# Altium footprint library Crazy_PCB.PcbLib: 155 footprints (part 9 of 10)
Each footprint in its own frame and in the unit in brackets; x right, y up, seen from the top. Pads: shape width x height; smd on the part's side, far side on the other; paste and mask are expansions set on the pad; w line width, h text height; cw(c..) or ccw(c..) is an arc to the next point about the centre after c.
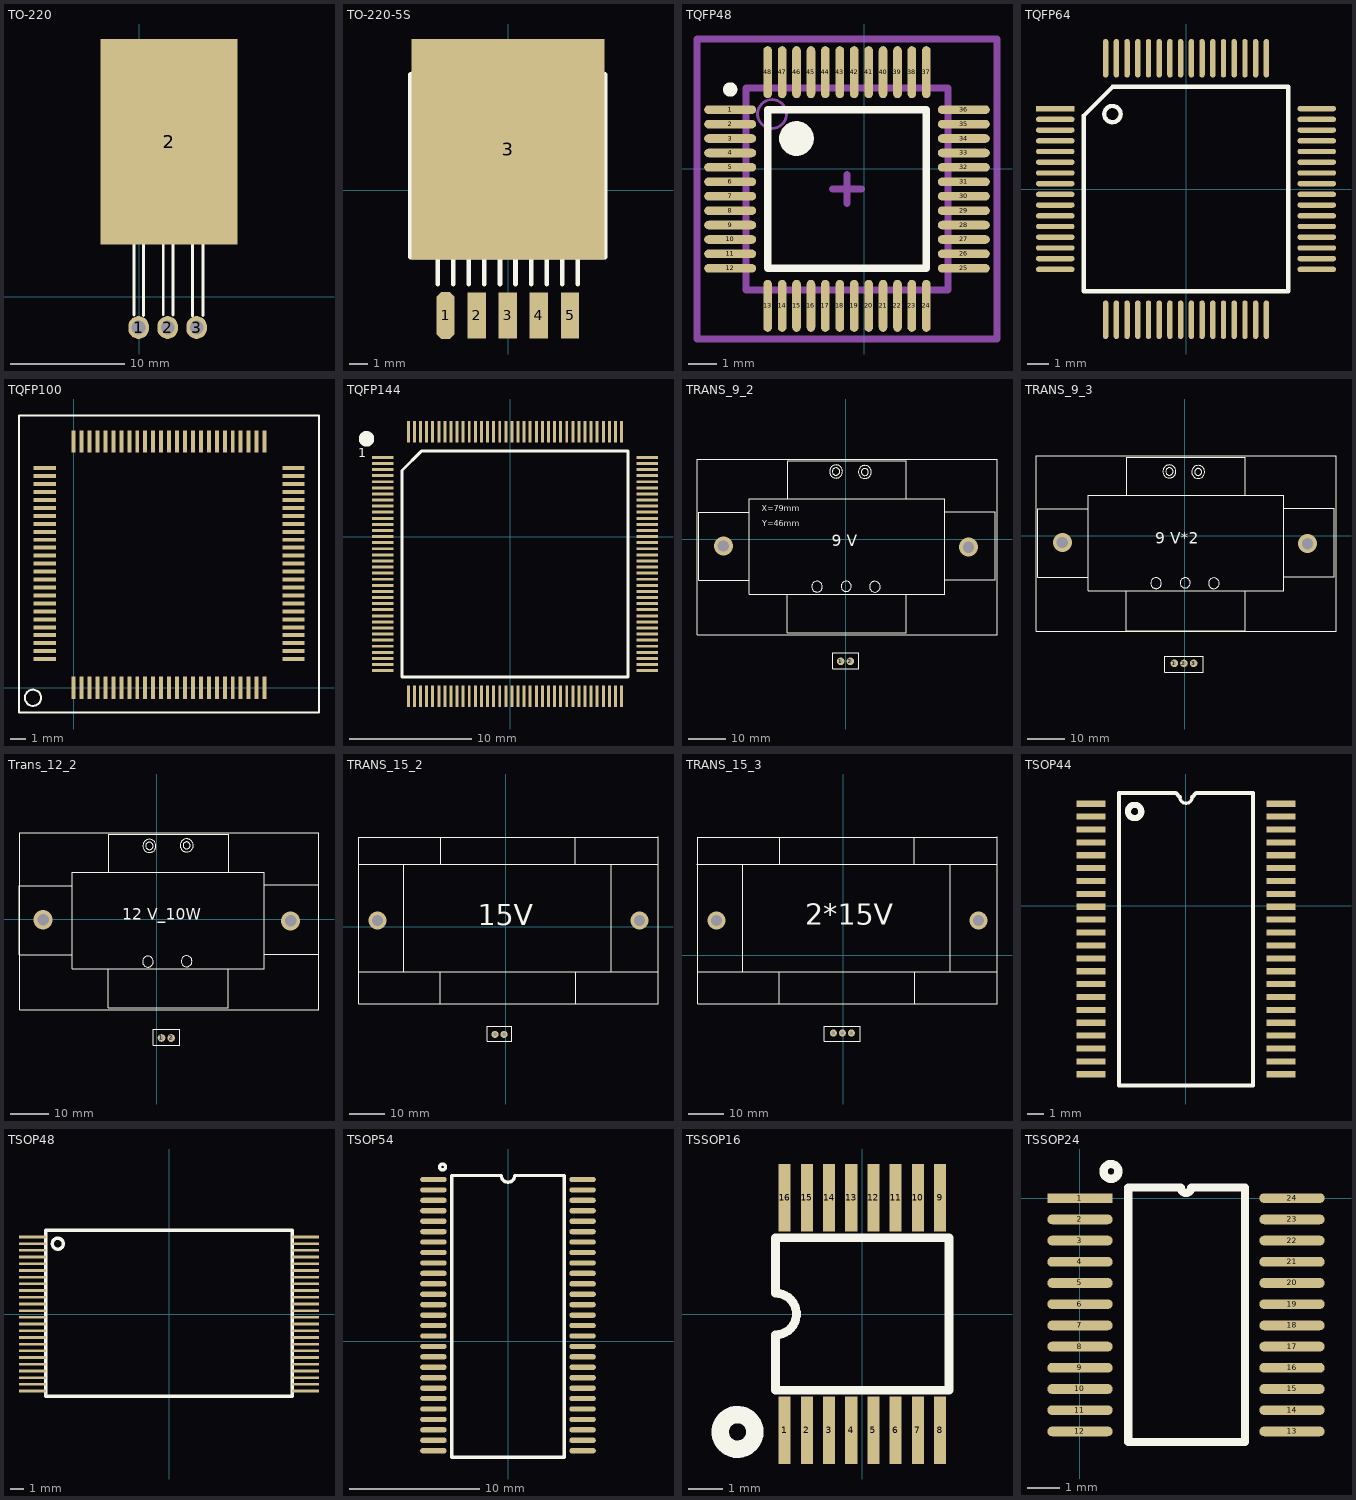
[diagram p8: the footprints below, top view; thin cyan lines are the x and y axes]

## TO-220 [mm]
pads (4):
  oval 1.8x2 hole 1.2: 1(-0.06,-2.69) 2(2.48,-2.69) 3(5.02,-2.69)
  rect 12x18 smd: 2(2.6,13.56)
Top Overlay:
  lines w0.254: -2.54,16.51 -2.54,5.08 7.62,5.08 7.62,16.51 ; -2.54,19.05 -2.54,20.32 7.62,20.32 7.62,19.05 ; -0.45,-1.58 -0.45,5.08 ; 0.38,-1.64 0.38,5.02 ; 2.1,-1.56 2.1,5.06 ; 2.95,-1.6 2.95,5.06 ; 4.67,-1.66 4.67,5.02 ; 5.56,-1.63 5.56,5.03

## TO-220-5S [mm]
pads (6):
  oct 0.995x2.56 smd: 1(-3.4,-6.8)
  rect 0.995x2.5 smd: 2(-1.707,-6.8) 3(-0.013,-6.8) 4(1.68,-6.8) 5(3.373,-6.8)
  rect 10.5x12 smd: 3(0,2.24)
Top Overlay:
  lines w0.254: -3.823,-5.1 -3.823,-3.625 ; -2.977,-5.1 -2.977,-3.625 ; -2.13,-5.1 -2.13,-3.625 ; -1.283,-5.1 -1.283,-3.625 ; -0.437,-5.1 -0.437,-3.625 ; 0.41,-5.1 0.41,-3.625 ; 1.257,-5.1 1.257,-3.625 ; 2.103,-5.1 2.103,-3.625 ; 2.95,-5.1 2.95,-3.625 ; 3.797,-5.1 3.797,-3.625 ; -5.305,-3.625 5.278,-3.625 ; -5.305,-3.625 -5.305,5.053 ; -5.305,-3.625 -4.882,-3.202 ; -5.305,5.053 5.278,5.053 ; -5.305,5.053 -5.305,6.323 -3.823,6.747 3.797,6.747 5.278,6.323 5.278,5.053 ; -5.305,5.053 -4.882,4.63 ; -4.882,-3.202 -4.882,4.63 ; -4.882,-3.202 4.855,-3.202 ; -4.882,4.63 4.855,4.63 ; 4.855,-3.202 5.278,-3.625 ; 4.855,-3.202 4.855,4.63 ; 4.855,4.63 5.278,5.053 ; 5.278,-3.625 5.278,5.053
  text "1" at -3.682,-2.97 h1.27
  text "5" at 2.876,-2.942 h1.27
3D body: height 2, standoff 0, extent -5.432,-8.182 5.405,8.342

## TQFP48 [mm]
pads (48):
  oval 1.8x0.3 smd: 1(-4.656,2.045) 2(-4.656,1.545) 3(-4.656,1.045) 4(-4.656,0.545) 5(-4.656,0.045) 6(-4.656,-0.455) 7(-4.656,-0.955) 8(-4.656,-1.455) 9(-4.656,-1.955) 10(-4.656,-2.455) 11(-4.656,-2.955) 12(-4.656,-3.455) 25(3.444,-3.455) 26(3.444,-2.955) 27(3.444,-2.455) 28(3.444,-1.955) 29(3.444,-1.455) 30(3.444,-0.955) 31(3.444,-0.455) 32(3.444,0.045) 33(3.444,0.545) 34(3.444,1.045) 35(3.444,1.545) 36(3.444,2.045)
  oval 0.3x1.8 smd: 13(-3.356,-4.755) 14(-2.856,-4.755) 15(-2.356,-4.755) 16(-1.856,-4.755) 17(-1.356,-4.755) 18(-0.856,-4.755) 19(-0.356,-4.755) 20(0.144,-4.755) 21(0.644,-4.755) 22(1.144,-4.755) 23(1.644,-4.755) 24(2.144,-4.755) 37(2.144,3.345) 38(1.644,3.345) 39(1.144,3.345) 40(0.644,3.345) 41(0.144,3.345) 42(-0.356,3.345) 43(-0.856,3.345) 44(-1.356,3.345) 45(-1.856,3.345) 46(-2.356,3.345) 47(-2.856,3.345) 48(-3.356,3.345)
Top Overlay:
  circle w0.6: c-2.356,1.045 r0.3
  circle w0.25: c-4.656,2.745 r0.125
  lines w0.254: -3.356,-3.455 2.144,-3.455 2.144,2.045 -3.356,2.045 -3.356,-3.455
Mechanical 13:
  circle w0.1: c-3.206,1.895 r0.5
  lines w0.254: -4.106,-4.205 2.894,-4.205 2.894,2.795 -4.106,2.795 -4.106,-4.205
Mechanical 15:
  lines w0.254: -1.106,-0.705 -0.106,-0.705 ; -0.606,-1.205 -0.606,-0.205 ; -5.806,-5.905 4.594,-5.905 4.594,4.495 -5.806,4.495 -5.806,-5.905
3D body: height 1.6, standoff 0, extent -4.106,-4.205 2.894,2.795

## TQFP64 [mm]
pads (64):
  rect 1.8x0.25 smd: 1(-6.1,3.75)
  oval 1.8x0.25 smd: 2(-6.1,3.25) 3(-6.1,2.75) 4(-6.1,2.25) 5(-6.1,1.75) 6(-6.1,1.25) 7(-6.1,0.75) 8(-6.1,0.25) 9(-6.1,-0.25) 10(-6.1,-0.75) 11(-6.1,-1.25) 12(-6.1,-1.75) 13(-6.1,-2.25) 14(-6.1,-2.75) 15(-6.1,-3.25) 16(-6.1,-3.75) 33(6.1,-3.75) 34(6.1,-3.25) 35(6.1,-2.75) 36(6.1,-2.25) 37(6.1,-1.75) 38(6.1,-1.25) 39(6.1,-0.75) 40(6.1,-0.25) 41(6.1,0.25) 42(6.1,0.75) 43(6.1,1.25) 44(6.1,1.75) 45(6.1,2.25) 46(6.1,2.75) 47(6.1,3.25) 48(6.1,3.75)
  oval 0.25x1.8 smd: 17(-3.75,-6.1) 18(-3.25,-6.1) 19(-2.75,-6.1) 20(-2.25,-6.1) 21(-1.75,-6.1) 22(-1.25,-6.1) 23(-0.75,-6.1) 24(-0.25,-6.1) 25(0.25,-6.1) 26(0.75,-6.1) 27(1.25,-6.1) 28(1.75,-6.1) 29(2.25,-6.1) 30(2.75,-6.1) 31(3.25,-6.1) 32(3.75,-6.1) 49(3.75,6.1) 50(3.25,6.1) 51(2.75,6.1) 52(2.25,6.1) 53(1.75,6.1) 54(1.25,6.1) 55(0.75,6.1) 56(0.25,6.1) 57(-0.25,6.1) 58(-0.75,6.1) 59(-1.25,6.1) 60(-1.75,6.1) 61(-2.25,6.1) 62(-2.75,6.1) 63(-3.25,6.1) 64(-3.75,6.1)
Top Overlay:
  circle w0.203: c-3.433,3.496 r0.381
  lines w0.203: -4.765,-4.765 -4.765,3.43 -3.43,4.765 4.765,4.765 4.765,-4.765 -4.765,-4.765
3D body: height 1.5, standoff 0, extent -4.766,-4.766 4.765,4.765

## TQFP100 [mm]
pads (100):
  rect 0.25x1.4 smd: 1(0,0) 2(0.5,0) 3(1,0) 4(1.5,0) 5(2,0) 6(2.5,0) 7(3,0) 8(3.5,0) 9(4,0) 10(4.5,0) 11(5,0) 12(5.5,0) 13(6,0) 14(6.5,0) 15(7,0) 16(7.5,0) 17(8,0) 18(8.5,0) 19(9,0) 20(9.5,0) 21(10,0) 22(10.5,0) 23(11,0) 24(11.5,0) 25(12,0) 51(12,15.469) 52(11.5,15.469) 53(11,15.469) 54(10.5,15.469) 55(10,15.469) 56(9.5,15.469) 57(9,15.469) 58(8.5,15.469) 59(8,15.469) 60(7.5,15.469) 61(7,15.469) 62(6.5,15.469) 63(6,15.469) 64(5.5,15.469) 65(5,15.469) 66(4.5,15.469) 67(4,15.469) 68(3.5,15.469) 69(3,15.469) 70(2.5,15.469) 71(2,15.469) 72(1.5,15.469) 73(1,15.469) 74(0.5,15.469) 75(0,15.469)
  rect 1.4x0.25 smd: 26(13.818,1.799) 27(13.818,2.299) 28(13.818,2.799) 29(13.818,3.299) 30(13.818,3.799) 31(13.818,4.299) 32(13.818,4.799) 33(13.818,5.299) 34(13.818,5.799) 35(13.818,6.299) 36(13.818,6.799) 37(13.818,7.299) 38(13.818,7.799) 39(13.818,8.299) 40(13.818,8.799) 41(13.818,9.299) 42(13.818,9.799) 43(13.818,10.299) 44(13.818,10.799) 45(13.818,11.299) 46(13.818,11.799) 47(13.818,12.299) 48(13.818,12.799) 49(13.818,13.299) 50(13.818,13.799) 76(-1.803,13.799) 77(-1.803,13.299) 78(-1.803,12.799) 79(-1.803,12.299) 80(-1.803,11.799) 81(-1.803,11.299) 82(-1.803,10.799) 83(-1.803,10.299) 84(-1.803,9.799) 85(-1.803,9.299) 86(-1.803,8.799) 87(-1.803,8.299) 88(-1.803,7.799) 89(-1.803,7.299) 90(-1.803,6.799) 91(-1.803,6.299) 92(-1.803,5.799) 93(-1.803,5.299) 94(-1.803,4.799) 95(-1.803,4.299) 96(-1.803,3.799) 97(-1.803,3.299) 98(-1.803,2.799) 99(-1.803,2.299) 100(-1.803,1.799)
Top Overlay:
  circle w0.127: c-2.548,-0.63 r0.508
  lines w0.127: -3.43,-1.57 -3.43,17.12 15.42,17.12 15.42,-1.57 -3.43,-1.57
3D body: height 1.5, standoff 0, extent -2.605,-0.802 14.619,16.27

## TQFP144 [mil]
pads (144):
  rect 70x9.5 smd: 1(-412.2,256.3) 2(-412.2,236.61) 3(-412.2,216.93) 4(-412.2,197.24) 5(-412.2,177.56) 6(-412.2,157.87) 7(-412.2,138.19) 8(-412.2,118.5) 9(-412.2,98.82) 10(-412.2,79.13) 11(-412.2,59.45) 12(-412.2,39.76) 13(-412.2,20.08) 14(-412.2,0.39) 15(-412.2,-19.29) 16(-412.2,-38.98) 17(-412.2,-58.66) 18(-412.2,-78.35) 19(-412.2,-98.03) 20(-412.2,-117.72) 21(-412.2,-137.4) 22(-412.2,-157.09) 23(-412.2,-176.77) 24(-412.2,-196.46) 25(-412.2,-216.14) 26(-412.2,-235.83) 27(-412.2,-255.51) 28(-412.2,-275.2) 29(-412.2,-294.88) 30(-412.2,-314.57) 31(-412.2,-334.25) 32(-412.2,-353.94) 33(-412.2,-373.62) 34(-412.2,-393.31) 35(-412.2,-412.99) 36(-412.2,-432.68) 73(442.12,-432.68) 74(442.12,-412.99) 75(442.12,-393.31) 76(442.12,-373.62) 77(442.12,-353.94) 78(442.12,-334.25) 79(442.12,-314.57) 80(442.12,-294.88) 81(442.12,-275.2) 82(442.12,-255.51) 83(442.12,-235.83) 84(442.12,-216.14) 85(442.12,-196.46) 86(442.12,-176.77) 87(442.12,-157.09) 88(442.12,-137.4) 89(442.12,-117.72) 90(442.12,-98.03) 91(442.12,-78.35) 92(442.12,-58.66) 93(442.12,-38.98) 94(442.12,-19.29) 95(442.12,0.39) 96(442.12,20.08) 97(442.12,39.76) 98(442.12,59.45) 99(442.12,79.13) 100(442.12,98.82) 101(442.12,118.5) 102(442.12,138.19) 103(442.12,157.87) 104(442.12,177.56) 105(442.12,197.24) 106(442.12,216.93) 107(442.12,236.61) 108(442.12,256.3)
  rect 9.5x70 smd: 37(-329.53,-515.35) 38(-309.84,-515.35) 39(-290.16,-515.35) 40(-270.47,-515.35) 41(-250.79,-515.35) 42(-231.1,-515.35) 43(-211.42,-515.35) 44(-191.73,-515.35) 45(-172.05,-515.35) 46(-152.36,-515.35) 47(-132.68,-515.35) 48(-112.99,-515.35) 49(-93.31,-515.35) 50(-73.62,-515.35) 51(-53.94,-515.35) 52(-34.25,-515.35) 53(-14.57,-515.35) 54(5.12,-515.35) 55(24.8,-515.35) 56(44.49,-515.35) 57(64.17,-515.35) 58(83.86,-515.35) 59(103.54,-515.35) 60(123.23,-515.35) 61(142.91,-515.35) 62(162.6,-515.35) 63(182.28,-515.35) 64(201.97,-515.35) 65(221.65,-515.35) 66(241.34,-515.35) 67(261.02,-515.35) 68(280.71,-515.35) 69(300.39,-515.35) 70(320.08,-515.35) 71(339.76,-515.35) 72(359.45,-515.35) 109(359.45,338.98) 110(339.76,338.98) 111(320.08,338.98) 112(300.39,338.98) 113(280.71,338.98) 114(261.02,338.98) 115(241.34,338.98) 116(221.65,338.98) 117(201.97,338.98) 118(182.28,338.98) 119(162.6,338.98) 120(142.91,338.98) 121(123.23,338.98) 122(103.54,338.98) 123(83.86,338.98) 124(64.17,338.98) 125(44.49,338.98) 126(24.8,338.98) 127(5.12,338.98) 128(-14.57,338.98) 129(-34.25,338.98) 130(-53.94,338.98) 131(-73.62,338.98) 132(-93.31,338.98) 133(-112.99,338.98) 134(-132.68,338.98) 135(-152.36,338.98) 136(-172.05,338.98) 137(-191.73,338.98) 138(-211.42,338.98) 139(-231.1,338.98) 140(-250.79,338.98) 141(-270.47,338.98) 142(-290.16,338.98) 143(-309.84,338.98) 144(-329.53,338.98)
Top Overlay:
  circle w25: c-464.7,316.3 r12.5
  lines w9.84: -349.8,-452.95 -349.8,214.17 -287.4,276.58 379.72,276.58 379.72,-452.95 -349.8,-452.95
  text "1" at -492.2,256.3 h30
3D body: height 78.74, standoff 0, extent -349.82,-452.97 379.74,276.6

## TRANS_9_2 [mm] "2 x 9 V"
pads (2):
  round 2 hole 1: 1(-1.35,-32.29) 2(1.19,-32.29)
via 32.41,-2.12 diameter 5 hole 3
via -32.35,-1.82 diameter 5 hole 3
Top Overlay:
  circle w0.254: c5.01,17.7 r0.93
  circle w0.254: c-2.581,17.83 r0.971
  circle w0.254: c5.03,17.71 r1.717
  circle w0.254: c-2.58,17.84 r1.717
  circle w0.254: c7.68,-12.59 r1.415
  circle w0.254: c0.1,-12.5 r1.339
  circle w0.254: c-7.582,-12.57 r1.422
  lines w0.25: -25.503,-10.94 -38.838,-10.94 -38.838,-1.923 -38.838,7.094 -25.503,7.094 ; -25.503,-2.05 -25.503,-14.623 26.186,-14.623 26.186,-1.796 ; -25.503,-1.923 -25.503,10.65 26.186,10.65 26.186,-1.669 ; -15.47,-14.75 -15.47,-24.783 15.899,-24.783 15.899,-14.75 ; -15.343,10.65 -15.343,20.683 16.026,20.683 16.026,10.65 ; 26.186,-10.813 39.521,-10.813 39.521,-1.796 39.521,7.221 26.186,7.221 ; -39.3,-25.291 39.93,-25.291 39.93,21.07 -39.3,21.07 -39.3,-25.291 ; -3.48,-34.25 3.38,-34.25 3.38,-30.03 -3.48,-30.03 -3.48,-34.25
  text "Y=46mm" at -22.08,3.41 h1.5
  text "X=79mm" at -22.18,7.39 h1.5
  text "9 V" at -3.68,-1.91 h3

## TRANS_9_3 [mm] "2 x 9 V"
pads (3):
  round 2 hole 1: 1(-2.76,-33.73) 2(-0.22,-33.73) 3(2.32,-33.73)
via -32.35,-1.82 diameter 5 hole 3
via 32.41,-2.12 diameter 5 hole 3
Top Overlay:
  circle w0.254: c-7.582,-12.57 r1.422
  circle w0.254: c0.1,-12.5 r1.339
  circle w0.254: c7.68,-12.59 r1.415
  circle w0.254: c-4.07,16.94 r1.717
  circle w0.254: c3.54,16.81 r1.717
  circle w0.254: c-4.071,16.93 r0.971
  circle w0.254: c3.52,16.8 r0.93
  lines w0.25: -25.503,-10.94 -38.838,-10.94 -38.838,-1.923 -38.838,7.094 -25.503,7.094 ; -25.503,-2.05 -25.503,-14.623 26.186,-14.623 26.186,-1.796 ; -25.503,-1.923 -25.503,10.65 26.186,10.65 26.186,-1.669 ; -15.47,-14.75 -15.47,-25.18 15.899,-25.18 15.899,-14.75 ; -15.343,10.65 -15.343,20.683 16.026,20.683 16.026,10.65 ; 26.186,-10.813 39.521,-10.813 39.521,-1.796 39.521,7.221 26.186,7.221 ; -39.3,-25.291 -39.3,21.07 39.93,21.07 39.93,-25.291 -39.3,-25.291 ; -5.3,-36.07 -5.3,-31.82 4.86,-31.82 4.86,-36.07 -5.3,-36.07
  text "9 V*2" at -7.78,-2.2 h3

## Trans_12_2 [mm]
pads (2):
  round 2 hole 1: 1(1.29,-31.01) 2(3.83,-31.01)
via 35.09,-0.39 diameter 5 hole 3
via -29.67,-0.09 diameter 5 hole 3
Top Overlay:
  circle w0.254: c7.866,19.355 r0.93
  circle w0.254: c-1.875,19.225 r0.971
  circle w0.254: c7.886,19.365 r1.717
  circle w0.254: c-1.874,19.235 r1.717
  circle w0.254: c7.871,-10.955 r1.415
  circle w0.254: c-2.256,-11.035 r1.422
  lines w0.25: -22.104,8.749 -35.982,8.749 -35.982,-0.268 -35.982,-9.285 -22.084,-9.285 ; -12.614,-13.095 -12.614,-23.128 18.755,-23.128 18.755,-13.095 ; -12.487,12.305 -12.487,22.338 18.882,22.338 18.882,12.305 ; 28.056,9.065 42.377,9.065 42.377,-0.141 42.377,-9.158 28.116,-9.158 ; -35.834,-23.636 42.496,-23.636 42.496,22.725 -35.834,22.725 -35.834,-23.636 ; -22.094,-12.968 -22.094,0.285 -22.094,12.305 28.176,12.305 28.176,0.852 28.176,-12.968 -22.094,-12.968 ; -0.84,-32.97 6.02,-32.97 6.02,-28.75 -0.84,-28.75 -0.84,-32.97
  text "12 V_10W" at -9.024,-0.045 h3

## TRANS_15_2 [mm]
pads (2):
  round 2 hole 1: 1(-3.08,-30.33) 2(-0.54,-30.33)
via 37.66,1.76 diameter 5 hole 3
via -36.21,1.76 diameter 5 hole 3
Top Overlay:
  lines w0.25: -41.686,17.62 42.604,17.62 ; -41.432,-12.733 42.858,-12.733 ; -28.732,-12.733 -28.732,17.62 ; -18.445,-12.977 -18.445,-21.75 19.655,-21.75 19.655,-12.733 ; -18.318,25.25 -18.318,17.62 19.528,17.62 19.528,25.25 ; 29.688,-12.733 29.688,17.62 ; 42.858,-21.75 -41.432,-21.75 -41.432,25.25 42.858,25.25 ; 42.858,-21.623 42.858,25.377 ; -5.21,-32.29 1.65,-32.29 1.65,-28.04 -5.21,-28.04 -5.21,-32.29
  text "15V" at -7.97,-1.59 h10

## TRANS_15_3 [mm]
pads (3):
  round 2 hole 1: 1(-2.84,-21.87) 2(-0.3,-21.87) 3(2.24,-21.87)
via -35.8,9.84 diameter 5 hole 3
via 38.07,9.84 diameter 5 hole 3
Top Overlay:
  lines w0.25: -41.276,25.7 43.014,25.7 ; -41.022,-4.653 43.268,-4.653 ; -28.322,-4.653 -28.322,25.7 ; -18.035,-4.897 -18.035,-13.67 20.065,-13.67 20.065,-4.653 ; -17.908,33.33 -17.908,25.7 19.938,25.7 19.938,33.33 ; 30.098,-4.653 30.098,25.7 ; 43.268,-13.67 -41.022,-13.67 -41.022,33.33 43.268,33.33 ; 43.268,-13.543 43.268,33.457 ; -5.38,-24.21 -5.38,-19.96 4.78,-19.96 4.78,-24.21 -5.38,-24.21
  text "2*15V" at -10.78,6.62 h10

## TSOP44 [mil] "贴片"
pads (44):
  rect 72x15 smd: 1(-231.5,249.21) 2(-231.5,217.72) 3(-231.5,186.22) 4(-231.5,154.72) 5(-231.5,123.23) 6(-231.5,91.73) 7(-231.5,60.24) 8(-231.5,28.74) 9(-231.5,-2.76) 10(-231.5,-34.25) 11(-231.5,-65.75) 12(-231.5,-97.24) 13(-231.5,-128.74) 14(-231.5,-160.24) 15(-231.5,-191.73) 16(-231.5,-223.23) 17(-231.5,-254.73) 18(-231.5,-286.22) 19(-231.5,-317.72) 20(-231.5,-349.21) 21(-231.5,-380.71) 22(-231.5,-412.21) 23(233.07,-412.21) 24(233.07,-380.71) 25(233.07,-349.21) 26(233.07,-317.72) 27(233.07,-286.22) 28(233.07,-254.73) 29(233.07,-223.23) 30(233.07,-191.73) 31(233.07,-160.24) 32(233.07,-128.74) 33(233.07,-97.24) 34(233.07,-65.75) 35(233.07,-34.25) 36(233.07,-2.76) 37(233.07,28.74) 38(233.07,60.24) 39(233.07,91.73) 40(233.07,123.23) 41(233.07,154.72) 42(233.07,186.22) 43(233.07,217.72) 44(233.07,249.21)
Top Overlay:
  lines w7.87: -13.96,264.96 ccw(c0.79,264.96) 15.54,264.96
  lines w10: -13.96,264.96 -24.2,275.2 -163.19,275.2 -163.19,-439.37 164.76,-439.37 164.76,275.2 25.77,275.2 15.54,264.96
  lines w15: -108.5,230.21 cw(c-124.8,230.21) -108.51,230.89
3D body: height 39.37, standoff 0, extent -168.19,-444.37 169.76,280.2

## TSOP48 [mm]
pads (48):
  rect 2x0.2 smd: 1(-10.2,5.75) 2(-10.2,5.25) 3(-10.2,4.75) 4(-10.2,4.25) 5(-10.2,3.75) 6(-10.2,3.25) 7(-10.2,2.75) 8(-10.2,2.25) 9(-10.2,1.75) 10(-10.2,1.25) 11(-10.2,0.75) 12(-10.2,0.25) 13(-10.2,-0.25) 14(-10.2,-0.75) 15(-10.2,-1.25) 16(-10.2,-1.75) 17(-10.2,-2.25) 18(-10.2,-2.75) 19(-10.2,-3.25) 20(-10.2,-3.75) 21(-10.2,-4.25) 22(-10.2,-4.75) 23(-10.2,-5.25) 24(-10.2,-5.75) 25(10.2,-5.75) 26(10.2,-5.25) 27(10.2,-4.75) 28(10.2,-4.25) 29(10.2,-3.75) 30(10.2,-3.25) 31(10.2,-2.75) 32(10.2,-2.25) 33(10.2,-1.75) 34(10.2,-1.25) 35(10.2,-0.75) 36(10.2,-0.25) 37(10.2,0.25) 38(10.2,0.75) 39(10.2,1.25) 40(10.2,1.75) 41(10.2,2.25) 42(10.2,2.75) 43(10.2,3.25) 44(10.2,3.75) 45(10.2,4.25) 46(10.2,4.75) 47(10.2,5.25) 48(10.2,5.75)
Top Overlay:
  circle w0.254: c-8.3,5.25 r0.412
  lines w0.25: -9.2,-6.15 -9.2,6.25 9.2,6.25 9.2,-6.15 -9.2,-6.15
3D body: height 1, standoff 0, extent -9.199,-6.149 9.199,6.249

## TSOP54 [mil]
height 200
pads (54):
  oval 80x16 smd: 1(-225,488.25) 2(-225,456.75) 3(-225,425.25) 4(-225,393.75) 5(-225,362.25) 6(-225,330.75) 7(-225,299.25) 8(-225,267.75) 9(-225,236.25) 10(-225,204.75) 11(-225,173.25) 12(-225,141.75) 13(-225,110.25) 14(-225,78.75) 15(-225,47.25) 16(-225,15.75) 17(-225,-15.75) 18(-225,-47.25) 19(-225,-78.75) 20(-225,-110.25) 21(-225,-141.75) 22(-225,-173.25) 23(-225,-204.75) 24(-225,-236.25) 25(-225,-267.75) 26(-225,-299.25) 27(-225,-330.75) 28(225,-330.75) 29(225,-299.25) 30(225,-267.75) 31(225,-236.25) 32(225,-204.75) 33(225,-173.25) 34(225,-141.75) 35(225,-110.25) 36(225,-78.75) 37(225,-47.25) 38(225,-15.75) 39(225,15.75) 40(225,47.25) 41(225,78.75) 42(225,110.25) 43(225,141.75) 44(225,173.25) 45(225,204.75) 46(225,236.25) 47(225,267.75) 48(225,299.25) 49(225,330.75) 50(225,362.25) 51(225,393.75) 52(225,425.25) 53(225,456.75) 54(225,488.25)
Top Overlay:
  circle w10: c-197.56,525.98 r8.98
  lines w10: -170,-350 -170,500 -20,500 ccw(c0,500) 20,500 170,500 170,-350 -170,-350
3D body: height 39.37, standoff 0, extent -170.02,-350.02 170.02,500.02

## TSSOP16 [mm]
pads (16):
  rect 0.35x1.95 smd: 1(-2.24,-3.35) 2(-1.6,-3.35) 3(-0.96,-3.35) 4(-0.32,-3.35) 5(0.32,-3.35) 6(0.96,-3.35) 7(1.6,-3.35) 8(2.24,-3.35) 9(2.24,3.35) 10(1.6,3.35) 11(0.96,3.35) 12(0.32,3.35) 13(-0.32,3.35) 14(-0.96,3.35) 15(-1.6,3.35) 16(-2.24,3.35)
Top Overlay:
  circle w0.5: c-3.6,-3.4 r0.5
  lines w0.254: -2.5,-2.2 2.5,-2.2 2.5,2.2 -2.5,2.2 -2.5,0.6 cw(c-2.5,0) -2.5,-0.6 -2.5,-2.2
3D body: height 1, standoff 0, extent -2.501,-2.201 2.501,2.201

## TSSOP24 [mm]
pads (24):
  rect 2x0.3 smd: 1(0,0)
  oval 2x0.3 smd: 2(0,-0.65) 3(0,-1.3) 4(0,-1.95) 5(0,-2.6) 6(0,-3.25) 7(0,-3.9) 8(0,-4.55) 9(0,-5.2) 10(0,-5.85) 11(0,-6.5) 12(0,-7.15) 13(6.5,-7.15) 14(6.5,-6.5) 15(6.5,-5.85) 16(6.5,-5.2) 17(6.5,-4.55) 18(6.5,-3.9) 19(6.5,-3.25) 20(6.5,-2.6) 21(6.5,-1.95) 22(6.5,-1.3) 23(6.5,-0.65) 24(6.5,0)
Top Overlay:
  circle w0.254: c0.952,0.82 r0.228
  lines w0.254: 1.48,-7.475 1.48,0.325 3.087,0.325 ccw(c3.25,0.325) 3.412,0.325 5.06,0.325 5.06,-7.475 1.48,-7.475
3D body: height 1, standoff 0, extent 1.479,-7.476 5.061,0.326